# Altium schematic symbol library LTC7818.SchLib: 9 symbols
Pins are listed as number, name and electrical type; pins without a type are passive.

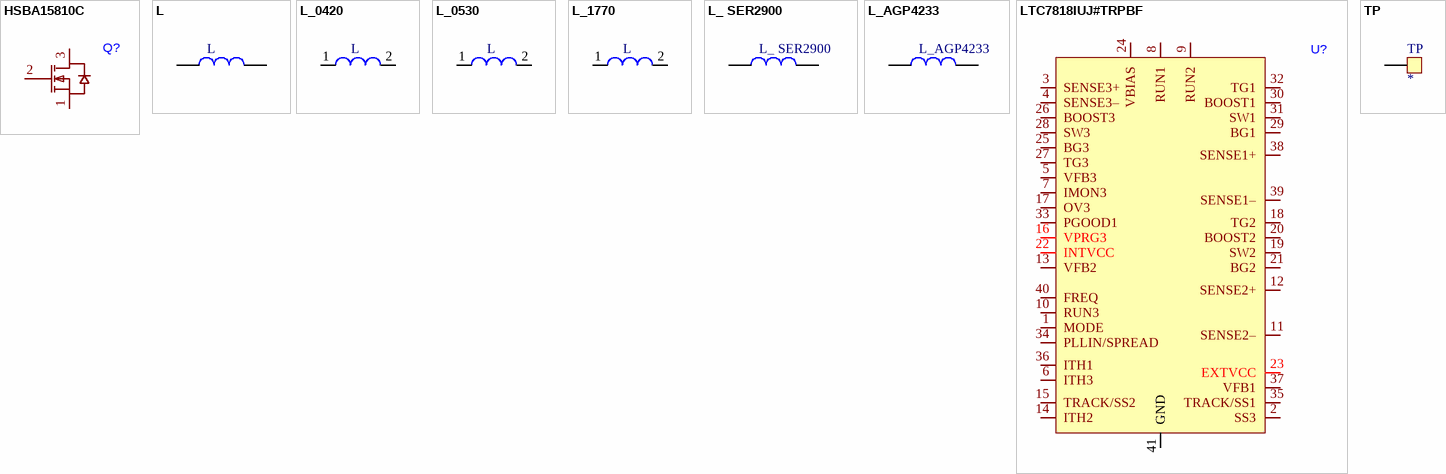
[diagram p0: symbols HSBA15810C to TP]

## HSBA15810C
designator Q?
footprint PQFN-8_L6.0-W5.0-P1.27-LS6.0-BL
pins: 1 S, 2 G, 3 D

## L
designator L
footprint L
pins: 1 (power), 2 (power)

## L_0420
designator L
footprint IND-SMD_L4.2-W4.2_MCW-0420
pins: 1 (power), 2 (power)

## L_0530
designator L
footprint IND-SMD_L5.4-W5.2_FXL0530
pins: 1 (power), 2 (power)

## L_1770
designator L
footprint IND-SMD_L17.5-W17.0_YXMAC1770
pins: 1 (power), 2 (power)

## L_ SER2900
designator L_ SER2900
footprint L_ SER2900
pins: 1 (power), 2 (power)

## L_AGP4233
designator L_AGP4233
footprint L_AGP4233 (扁平电感)
pins: 1 (power), 2 (power)

## LTC7818IUJ#TRPBF
designator U?
footprint QFN40 6X6_M (40脚，长x宽x高：6x6x1mm，脚距：0.5mm)
pins: 1 MODE, 2 SS3, 3 SENSE3+, 4 SENSE3–, 5 VFB3, 6 ITH3, 7 IMON3, 8 RUN1, 9 RUN2, 10 RUN3, 11 SENSE2–, 12 SENSE2+, 13 VFB2, 14 ITH2, 15 TRACK/SS2, 16 VPRG3, 17 OV3, 18 TG2, 19 SW2, 20 BOOST2, 21 BG2, 22 INTVCC, 23 EXTVCC, 24 VBIAS, 25 BG3, 26 BOOST3, 27 TG3, 28 SW3, 29 BG1, 30 BOOST1, 31 SW1, 32 TG1, 33 PGOOD1, 34 PLLIN/SPREAD, 35 TRACK/SS1, 36 ITH1, 37 VFB1, 38 SENSE1+, 39 SENSE1–, 40 FREQ, 41 GND

## TP
designator TP
footprint CONN-TH_T44001
pins: 1 (power)